# Altium footprint library Trans_ON_Semi_FDC6333C_eec_0.PcbLib: 1 footprints
Each footprint in its own frame and in the unit in brackets; x right, y up, seen from the top. Pads: shape width x height; smd on the part's side, far side on the other; paste and mask are expansions set on the pad; w line width, h text height; cw(c..) or ccw(c..) is an arc to the next point about the centre after c.
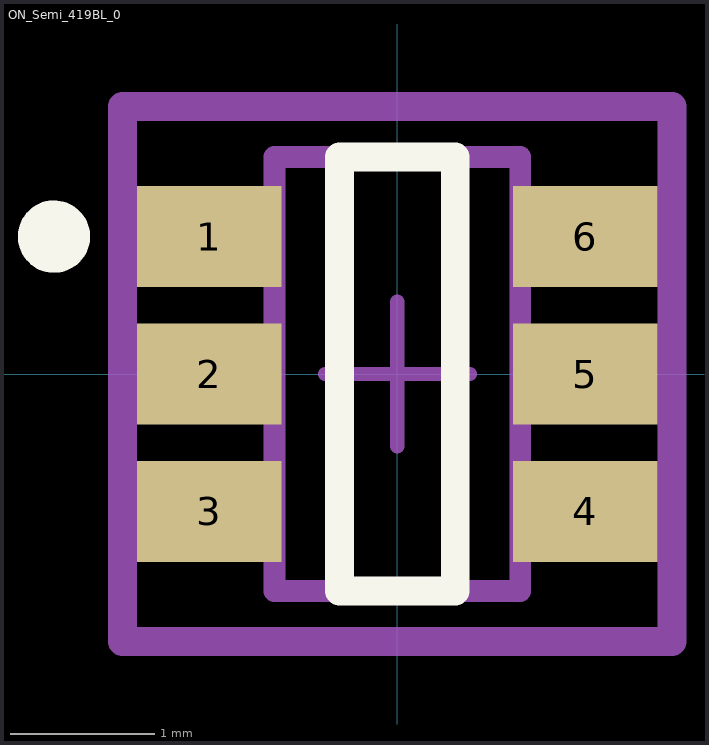
[diagram p0: the footprint, top view; thin cyan lines are the x and y axes]

## ON_Semi_419BL_0 [mm]
pads (6):
  rect 1x0.7 smd paste+0 mask+0: 1(-1.3,0.95) 2(-1.3,0) 3(-1.3,-0.95) 4(1.3,-0.95) 5(1.3,0) 6(1.3,0.95)
Top Overlay:
  circle w0.25: c-2.375,0.95 r0.125
  lines w0.2: -0.4,-1.5 0.4,-1.5 0.4,1.5 -0.4,1.5 -0.4,-1.5
Mechanical 10:
  lines w0.2: -1.9,-1.85 1.9,-1.85 1.9,1.85 -1.9,1.85 -1.9,-1.85
  text ".Designator" at 0,0 h1
Mechanical 12:
  lines w0.15: -0.85,-1.5 0.85,-1.5 0.85,1.5 -0.85,1.5 -0.85,-1.5
Mechanical 15:
  lines w0.1: -0.5,0 0.5,0 ; 0,-0.5 0,0.5
  lines w0.2: -1.9,-1.85 1.9,-1.85 1.9,1.85 -1.9,1.85 -1.9,-1.85
3D body "Trans_ON_Semi_FDC6333C_eec.STEP": height 0.25, standoff 0, extent -1.9,-1.85 1.9,1.85